# EAGLE library part GPS (library main_library)
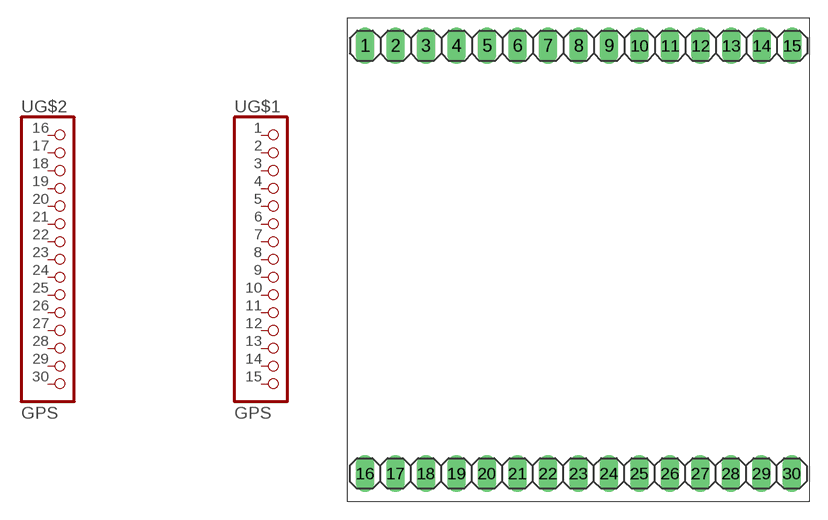
[diagram p3: symbol with the pads of GPS; footprint GPS]

Designator prefix -; gates G$1=PINHD15 G$2=PINHD15

## GPS  [GPS]
1  G$1:1  pas
2  G$1:2  pas
3  G$1:3  pas
4  G$1:4  pas
5  G$1:5  pas
6  G$1:6  pas
7  G$1:7  pas
8  G$1:8  pas
9  G$1:9  pas
10  G$1:10  pas
11  G$1:11  pas
12  G$1:12  pas
13  G$1:13  pas
14  G$1:14  pas
15  G$1:15  pas
16  G$2:1  pas
17  G$2:2  pas
18  G$2:3  pas
19  G$2:4  pas
20  G$2:5  pas
21  G$2:6  pas
22  G$2:7  pas
23  G$2:8  pas
24  G$2:9  pas
25  G$2:10  pas
26  G$2:11  pas
27  G$2:12  pas
28  G$2:13  pas
29  G$2:14  pas
30  G$2:15  pas

## Footprint GPS (pad centres in mm)
drill 1.016 long: 1 1.524,37.973; 2 4.064,37.973; 3 6.604,37.973; 4 9.144,37.973; 5 11.684,37.973; 6 14.224,37.973; 7 16.764,37.973; 8 19.304,37.973; 9 21.844,37.973; 10 24.384,37.973; 11 26.924,37.973; 12 29.464,37.973; 13 32.004,37.973; 14 34.544,37.973; 15 37.084,37.973; 16 1.499,2.337; 17 4.039,2.337; 18 6.579,2.337; 19 9.119,2.337; 20 11.659,2.337; 21 14.199,2.337; 22 16.739,2.337; 23 19.279,2.337; 24 21.819,2.337; 25 24.359,2.337; 26 26.899,2.337; 27 29.439,2.337; 28 31.979,2.337; 29 34.519,2.337; 30 37.059,2.337